# Altium footprint library L_1210_3225_N.PcbLib: 1 footprints
Each footprint in its own frame and in the unit in brackets; x right, y up, seen from the top. Pads: shape width x height; smd on the part's side, far side on the other; paste and mask are expansions set on the pad; w line width, h text height; cw(c..) or ccw(c..) is an arc to the next point about the centre after c.
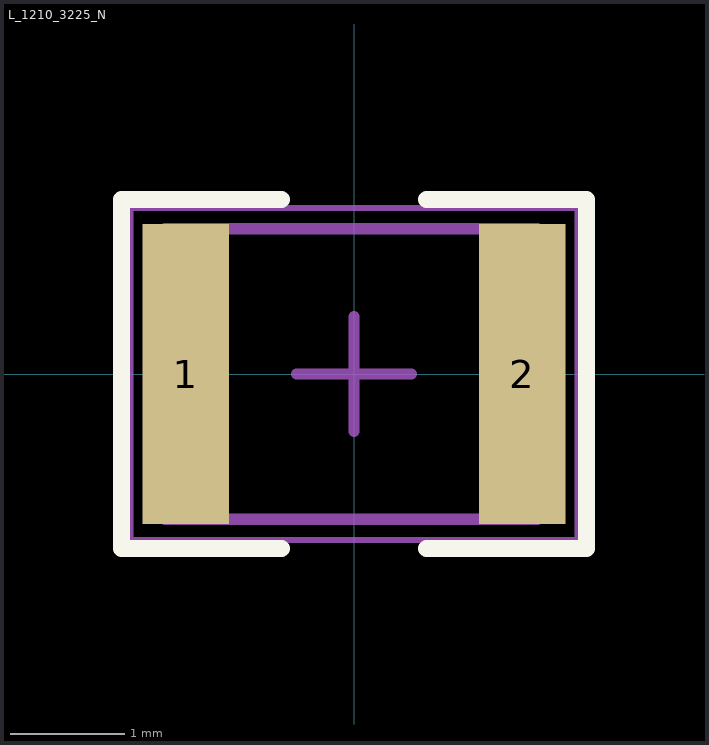
[diagram p0: the footprint, top view; thin cyan lines are the x and y axes]

## L_1210_3225_N [mm] "Chip Inductor, 2-Leads, Body 3,20x2,50mm, IPC High Density"
height 2.4
pads (2):
  rect 0.76x2.62 smd: 1(-1.47,0) 2(1.47,0)
Top Overlay:
  lines w0.15: -0.635,-1.524 -2.032,-1.524 -2.032,1.524 -0.635,1.524 ; 0.635,-1.524 2.032,-1.524 2.032,1.524 0.635,1.524
Mechanical 13:
  lines w0.1: -1.651,-1.27 -1.651,1.27 1.6,1.27 1.6,-1.27 -1.651,-1.27
Mechanical 15:
  lines w0.05: -1.95,-1.45 -1.95,1.45 1.95,1.45 1.95,-1.45 -1.95,-1.45
  lines w0.1: -0.5,0 0.5,0 ; 0,-0.5 0,0.5
Mechanical 17:
  text "'.Designator'" at -1.524,-0.635 h0.38
Mechanical 19:
  text "'.Comment'" at -1.524,-0.635 h0.38
3D body "User Library-3225.STEP": height 1.9, standoff 0, extent -1.6,-1.25 1.6,1.25